# Altium footprint library motor_driver_pcbLib.PcbLib: 8 footprints
Each footprint in its own frame and in the unit in brackets; x right, y up, seen from the top. Pads: shape width x height; smd on the part's side, far side on the other; paste and mask are expansions set on the pad; w line width, h text height; cw(c..) or ccw(c..) is an arc to the next point about the centre after c.
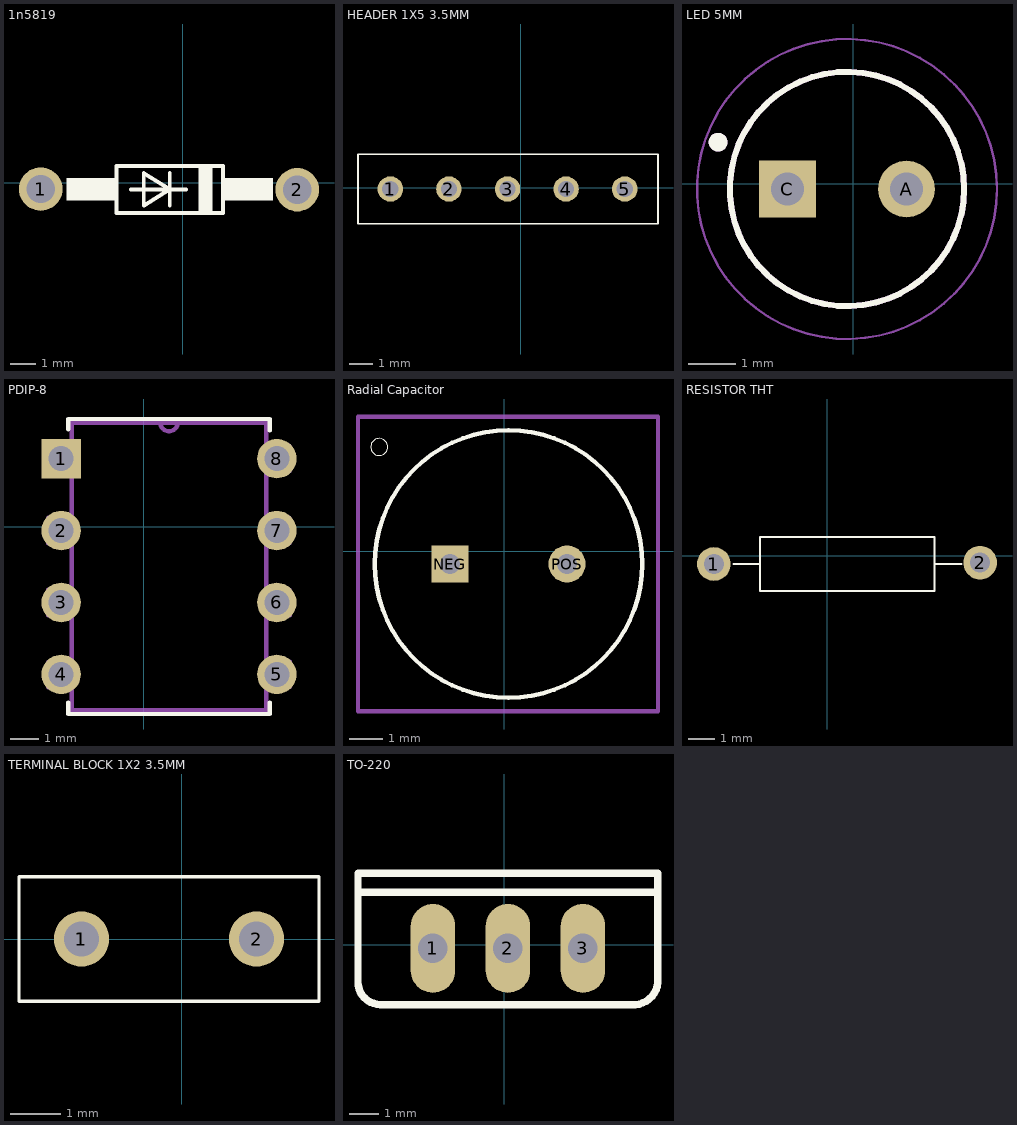
[diagram p0: the footprints below, top view; thin cyan lines are the x and y axes]

## 1n5819 [mm]
pads (2):
  round 1.7 hole 1.1: 1(-5.55,-0.241) 2(4.475,-0.265)
Top Overlay:
  region: 3.531,0.186 1.631,0.186 1.631,-0.696 3.531,-0.696
  rectangle: -4.55,-0.694 -2.65,0.188
  region: 1.574,0.171 2.21,0.171 2.21,-0.679 1.574,-0.679
  region: -3.225,0.172 -2.593,0.172 -2.593,-0.679 -3.225,-0.679
  region: 0.635,0.698 1.146,0.698 1.146,-1.174 0.635,-1.174
  lines w0.152: -2.032,-0.254 -0.508,-0.254 ; -0.508,-0.889 -0.508,-0.254 ; -0.508,0.381 -0.508,-0.254 ; 0.127,-0.254 -0.508,-0.254 ; -0.508,-0.254 -1.524,-0.889 -1.524,0.381 -0.508,-0.254 ; -2.59,-1.174 1.574,-1.174 1.574,0.666 -2.59,0.666 -2.59,-1.174
3D body "User Library-DO-41-1.step": height 3.43, standoff -1.9, extent -6.137,-1.673 4.887,1.067

## HEADER 1X5 3.5MM [mm]
pads (5):
  round 1.1 hole 0.7: 1(-5.655,-0.051) 2(-3.115,-0.051) 3(-0.575,-0.051) 4(1.965,-0.051) 5(4.505,-0.051)
Top Overlay:
  lines w0.07: -7.055,-1.551 -7.055,1.449 5.945,1.449 5.945,-1.551 -7.055,-1.551
3D body "Pin Header 1x5 TH Pitch 2.54mm.stp": height 9.5, standoff -3.2, extent -6.905,-1.291 5.795,1.249

## LED 5MM [mm]
pads (2):
  round 1.208 hole 0.7: A(1.133,-0.11)
  rect 1.208x1.208 hole 0.7: C(-1.407,-0.11)
Top Overlay:
  circle w0.2: c-2.887,0.89 r0.1
  circle w0.127: c-0.137,-0.11 r2.5
Mechanical 13:
  circle w0.2: c-2.887,0.89 r0.1
  circle w0.127: c-0.137,-0.11 r2.5
Mechanical 15:
  circle w0.05: c-0.137,-0.11 r3.2
3D body "everlight-5MM-LED-GREEN.step": height 12.04, standoff -3.93, extent -3.075,-3.01 2.375,2.89

## PDIP-8 [mil]
pads (8):
  rect 55x55 hole 35: 1(-115,95)
  round 55 hole 35: 2(-115,-5) 3(-115,-105) 4(-115,-205) 5(185,-205) 6(185,-105) 7(185,-5) 8(185,95)
Top Overlay:
  lines w6: -105,-244 -105,-260 175,-260 175,-244 ; -105,136 -105,150 175,150 175,134
Mechanical 13:
  lines w6: 23,145 ccw(c35,145) 47,145 ; 23,145 -100,145 -100,-255 170,-255 170,145 47,145 ; 23,145 47,145 ; -133,-223 -100,-223 -100,-187 -133,-188 -133,-223 ; -133,-123 -100,-123 -100,-87 -133,-87 -133,-123 ; -133,-23 -100,-23 -100,13 -133,13 -133,-23 ; -133,77 -100,77 -100,113 -133,113 -133,77 ; 170,-223 203,-222 203,-187 170,-187 170,-223 ; 170,-123 203,-123 202,-87 170,-87 170,-123 ; 170,-23 202,-23 202,13 170,13 170,-23 ; 170,77 202,77 202,113 170,113 170,77
3D body "User Library-PDIP-8.step": height 200.79, standoff -125.2, extent -127.17,-252.05 198.03,141.66

## Radial Capacitor [mil]
pads (2):
  rect 43.62x43.62 hole 23.62: NEG(-63.9,-15)
  round 43.62 hole 23.62: POS(73.9,-15)
Top Overlay:
  circle w0: c-147.17,122.8 r10
  circle w5: c5,-15 r157.48
Mechanical 15:
  lines w5: -172.17,-188.23 -172.17,158.23 180.98,158.23 180.98,-188.23 -172.17,-188.23
3D body "CircuitWorks-ELECTROLITIC CAPACITOR RADIAL 8X12.step": height 503.94, standoff -66.93, extent -150.59,-174.21 164.37,140.75

## RESISTOR THT [mm]
pads (2):
  round 1.258 hole 0.75: 1(-4.225,-0.3) 2(5.7,-0.25)
Top Overlay:
  lines w0.07: -3.5,-0.3 -2.5,-0.3 ; 4,-0.3 5,-0.3 ; -2.5,-0.3 -2.5,-1.3 4,-1.3 4,0.7 -2.5,0.7 -2.5,-0.3
3D body "User Library-MF0_25W_6mm_10mm_22ohm.step": height 2.6, standoff -1.5, extent -4.525,-1.3 5.925,0.7

## TERMINAL BLOCK 1X2 3.5MM [mm]
pads (3):
  round 1.1 hole 0.7: 1(-2,0) 1(-2,0) 2(1.5,0)
Top Overlay:
  lines w0.07: -3.25,-1.25 2.75,-1.25 2.75,1.25 -3.25,1.25 -3.25,-1.25
3D body: height 1.19, standoff -1.19, extent -0.5,0 -0.5,0
3D body "Screw Terminal Block 3.5mm Blue 2-way.step": height 8.4, standoff -2, extent -3.9,-3.125 3.4,3.675

## TO-220 [mil]
pads (3):
  oval 59.37x118.74 hole 39.37: 1(-95,-5) 2(5,-5) 3(105,-5)
Top Overlay:
  lines w10: 174.77,-80.02 ccw(c172.5,-47.5) 205.02,-45.23 ; 175,-80 -165,-80 cw(c-165,-50) -195,-50 -195,70 ; 205,-45 205,70 ; -195,70 -195,95 205,95 205,70 ; -195,70 205,70
Mechanical 13:
  lines w8: -195,70 -195,95 205,95 205,70 ; -165,-80 175,-80
3D body "2n6043g.stp": height 974.8, standoff -245.28, extent -200.2,-81.69 219.88,108.46